# Altium schematic symbol library Qorvo.SchLib: 2 symbols
Pins are listed as number, name and electrical type; pins without a type are passive.

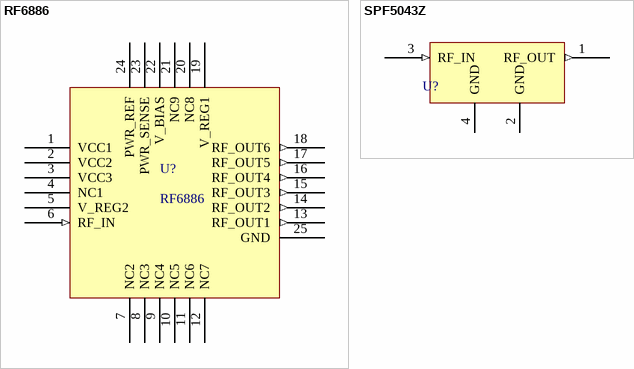
[diagram p0: symbols RF6886 to SPF5043Z]

## RF6886
designator U?
footprint LCCS50P400X400X90-24N (LCC, 24-Pins, Body 4.00x4.00mmx0.90mm, Pitch 0.50mm, IPC Medium Density)
pins: 1 VCC1 (power), 2 VCC2 (power), 3 VCC3 (power), 4 NC1, 5 V_REG2, 6 RF_IN (in), 7 NC2, 8 NC3, 9 NC4, 10 NC5, 11 NC6, 12 NC7, 13 RF_OUT1 (out), 14 RF_OUT2 (out), 15 RF_OUT3 (out), 16 RF_OUT4 (out), 17 RF_OUT5 (out), 18 RF_OUT6 (out), 19 V_REG1, 20 NC8, 21 NC9, 22 V_BIAS, 23 PWR_SENSE, 24 PWR_REF, 25 GND (power)

## SPF5043Z
designator U?  (value not drawn)
footprint SOT-343 (SOT143, 4-Leads, Body 2.00x2.10mm, Pitch 1.30mm, IPC Medium Density)
pins: 1 RF_OUT (out), 2 GND (power), 3 RF_IN (in), 4 GND (power)